# Altium schematic symbol library Cap Tantalum 100uF_16V.Schlib: 1 symbol
Pins are listed as number, name and electrical type; pins without a type are passive.

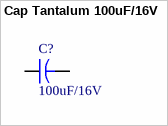
[diagram p0: symbol Cap Tantalum 100uF/16V]

## Cap Tantalum 100uF/16V
designator C?, comment 100uF/16V
Tantalum Capacitors - Solid SMD 16volts 100uF 10% ESR=125mOhms
pins: 1, 2